# Altium schematic symbol library UK_Library_SCH.SchLib: 16 symbols
Pins are listed as number, name and electrical type; pins without a type are passive.

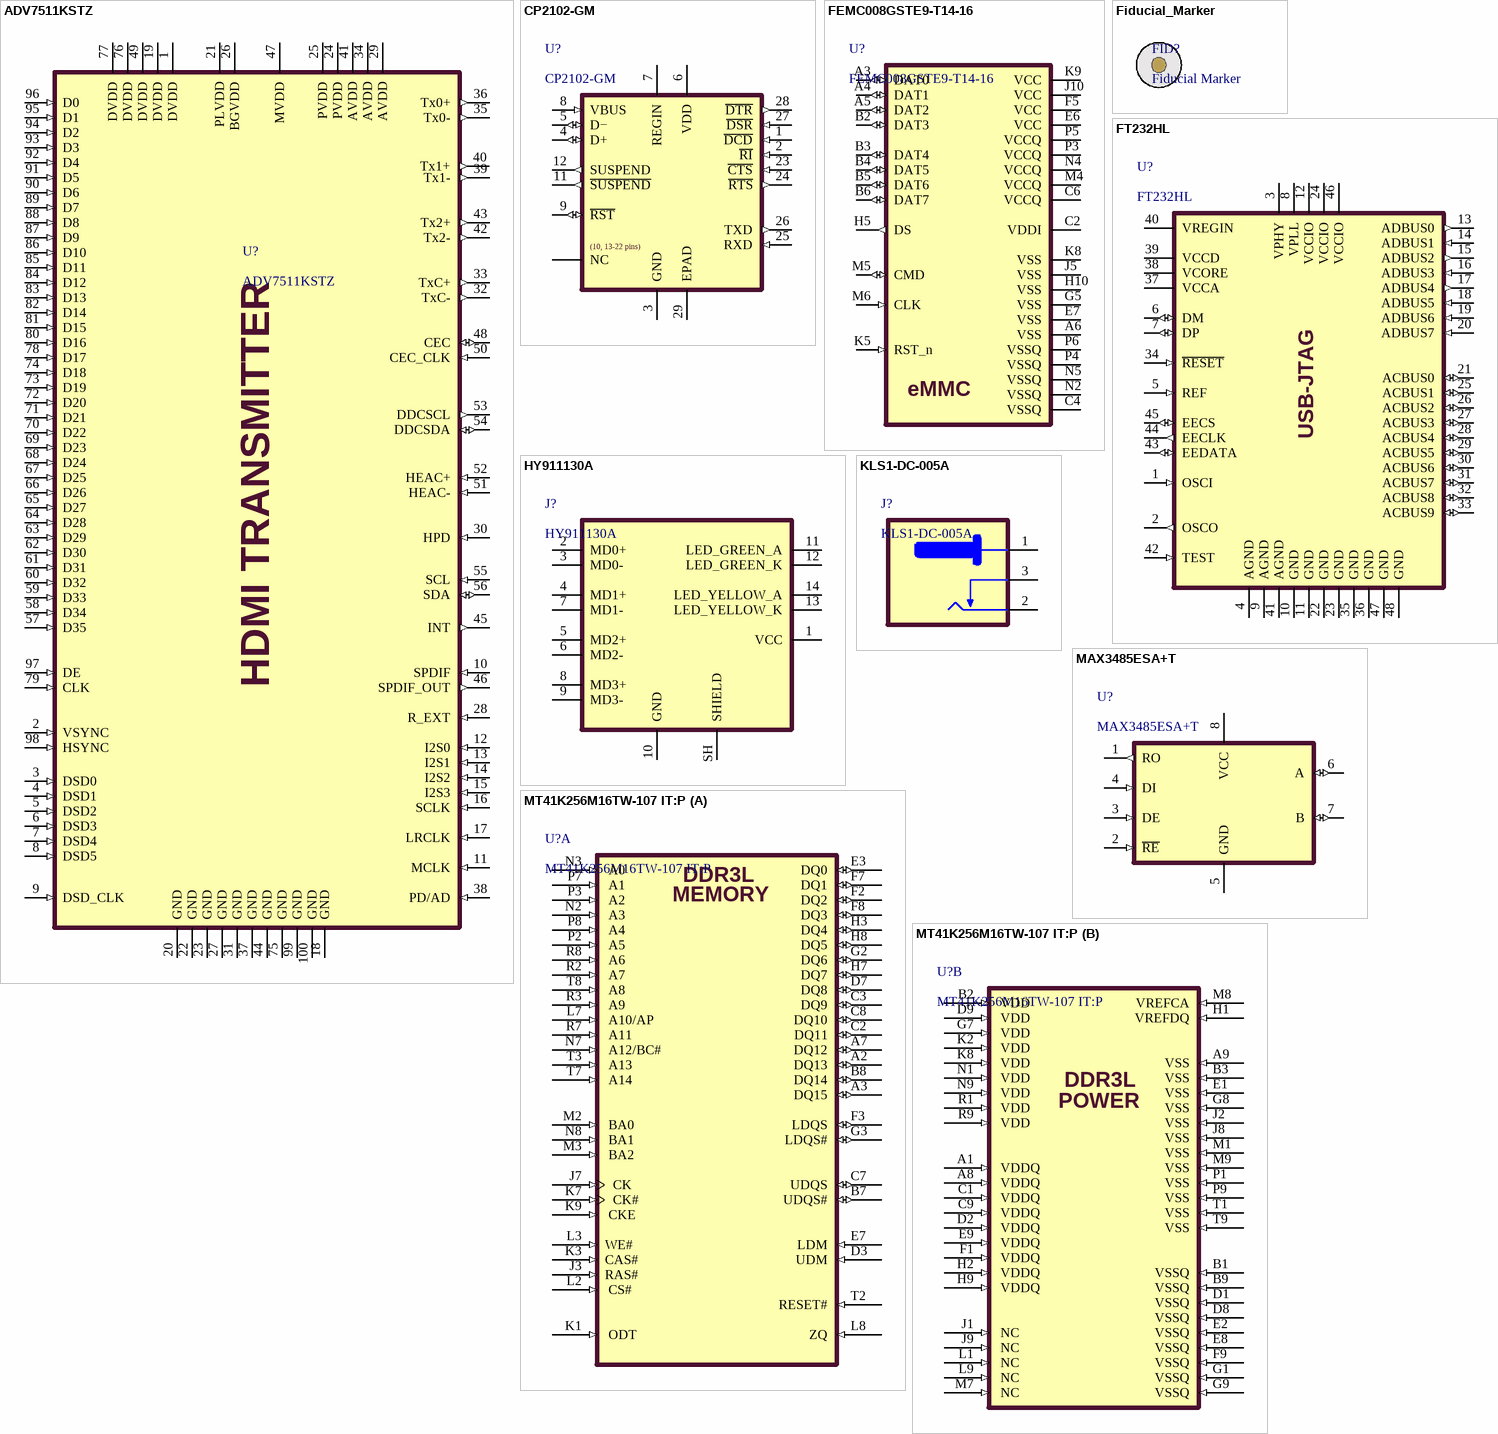
[diagram p0: symbols ADV7511KSTZ to MT41K256M16TW-107 IT:P]

## ADV7511KSTZ
designator U?
225 MHz, High Performance HDMI® Transmitter with ARC; Manufacturer: Analog Devices Inc./Maxim Integrated; ComponentLink1Description: Datasheet; ComponentLink1URL: https://www.analog.com/media/en/technical-documentation/data-sheets/ADV7511.pdf; ComponentLink2Description: Hardware User's Guide; ComponentLink2URL: https://www.analog.com/media/en/technical-documentation/user-guides/ADV7511_Hardware_Users_Guide.pdf; ComponentLink3Description: HDMI-Enabled Designs Using the ADV7511; ComponentLink3URL: https://www.analog.com/media/en/technical-documentation/evaluation-documentation/hdmi-enabled_designs_using_adv7511.pdf; ComponentLink4Description: Design Support Files; ComponentLink4URL: https://ez.analog.com/video/w/documents/794/adv7511-design-support-files; Manufacturer Part Number: ADV7511KSTZ
footprint LQFP50P1600X1600X160-100N (LQFP, 100-Leads, Body 14,00x14,00mm, Pitch 0,50mm, IPC Medium Density)
pins: 1 DVDD (power), 2 VSYNC (in), 3 DSD0 (in), 4 DSD1 (in), 5 DSD2 (in), 6 DSD3 (in), 7 DSD4 (in), 8 DSD5 (in), 9 DSD_CLK (in), 10 SPDIF (in), 11 MCLK (in), 12 I2S0 (in), 13 I2S1 (in), 14 I2S2 (in), 15 I2S3 (in), 16 SCLK (in), 17 LRCLK (in), 18 GND (power), 19 DVDD (power), 20 GND (power), 21 PLVDD (power), 22 GND (power), 23 GND (power), 24 PVDD (power), 25 PVDD (power), 26 BGVDD (power), 27 GND (power), 28 R_EXT (in), 29 AVDD (power), 30 HPD (in), 31 GND (power), 32 TxC- (out), 33 TxC+ (out), 34 AVDD (power), 35 Tx0- (out), 36 Tx0+ (out), 37 GND (power), 38 PD/AD (in), 39 Tx1- (out), 40 Tx1+ (out), 41 AVDD (power), 42 Tx2- (out), 43 Tx2+ (out), 44 GND (power), 45 INT (out), 46 SPDIF_OUT (out), 47 MVDD (power), 48 CEC (io), 49 DVDD (power), 50 CEC_CLK (in), 51 HEAC- (in), 52 HEAC+ (in), 53 DDCSCL (out), 54 DDCSDA (io), 55 SCL (in), 56 SDA (io), 57 D35 (in), 58 D34 (in), 59 D33 (in), 60 D32 (in), 61 D31 (in), 62 D30 (in), 63 D29 (in), 64 D28 (in), 65 D27 (in), 66 D26 (in), 67 D25 (in), 68 D24 (in), 69 D23 (in), 70 D22 (in), 71 D21 (in), 72 D20 (in), 73 D19 (in), 74 D18 (in), 75 GND (power), 76 DVDD (power), 77 DVDD (power), 78 D17 (in), 79 CLK (in), 80 D16 (in), 81 D15 (in), 82 D14 (in), 83 D13 (in), 84 D12 (in), 85 D11 (in), 86 D10 (in), 87 D9 (in), 88 D8 (in), 89 D7 (in), 90 D6 (in), 91 D5 (in), 92 D4 (in), 93 D3 (in), 94 D2 (in), 95 D1 (in), 96 D0 (in), 97 DE (in), 98 HSYNC (in), 99 GND (power), 100 GND (power)
text: HDMI TRANSMITTER

## CP2102-GM
designator U?
USB Bridge, USB to UART USB 2.0 UART Interface 28-QFN (5x5); Manufacturer: Silicon Labs; ComponentLink1Description: Datasheet; ComponentLink1URL: https://www.silabs.com/documents/public/data-sheets/CP2102-9.pdf; Manufacturer Part Number: CP2102-GM
footprint QFN50P500X500X100_HS-29N (QFN, 28-Leads, Body 5,00x5,00mm, Pitch 0,50mm, Thermal Pad 3,13x3,13mm, IPC Medium Density); pin to pad NC>10+13+14+15+16+17+18+19+20+21+22
pins: 1 ~{DCD} (in), 2 ~{RI} (in), 3 GND (power), 4 D+ (io), 5 D− (io), 6 VDD (power), 7 REGIN (power), 8 VBUS (in), 9 ~{RST} (io), 11 ~{SUSPEND} (out), 12 SUSPEND (out), 23 ~{CTS} (in), 24 ~{RTS} (out), 25 RXD (in), 26 TXD (out), 27 ~{DSR} (in), 28 ~{DTR} (out), 29 EPAD (power), NC
text: (10, 13-22 pins)

## FEMC008GSTE9-T14-16
designator U?
FLASH - NAND (MLC) Memory IC 64Gbit eMMC_5.1 200 MHz 153-FBGA (11.5x13); Manufacturer: Flexxon Pte Ltd; ComponentLink1Description: Datasheet; ComponentLink1URL: https://mm.digikey.com/Volume0/opasdata/d220001/medias/docus/6348/FLEXXON%20eMMC%205.1%20MLC%20%28XTRA%20III%20153ball%29%20SPEC%20V1.9.pdf; Manufacturer Part Number: FEMC008GSTE9-T14-16
footprint BGA153C50P14X14_1150X1300X100 (FBGA, 153-Leads, Body 11,50x13,00mmx1,00mm, Pitch 0,50mm)
pins: A3 DAT0 (io), A4 DAT1 (io), A5 DAT2 (io), A6 VSS (power), B2 DAT3 (io), B3 DAT4 (io), B4 DAT5 (io), B5 DAT6 (io), B6 DAT7 (io), C2 VDDI (power), C4 VSSQ (power), C6 VCCQ (power), E6 VCC (power), E7 VSS (power), F5 VCC (power), G5 VSS (power), H5 DS (out), H10 VSS (power), J5 VSS (power), J10 VCC (power), K5 RST_n (in), K8 VSS (power), K9 VCC (power), M4 VCCQ (power), M5 CMD (io), M6 CLK (in), N2 VSSQ (power), N4 VCCQ (power), N5 VSSQ (power), P3 VCCQ (power), P4 VSSQ (power), P5 VCCQ (power), P6 VSSQ (power)
text: eMMC

## Fiducial_Marker
designator FID?, comment Fiducial Marker
Fiducial Marker 1mm No Bom
footprint Fiducial

## FT232HL
designator U?
USB Bridge, USB to UART (JTAG),FIFO USB 2.0 UART, FIFO Interface 48-LQFP (7x7); Manufacturer: FTDI, Future Technology Devices International Ltd; Manufacturer Part Number: FT232HL-REEL; ComponentLink1Description: Datasheet; ComponentLink1URL: https://ftdichip.com/wp-content/uploads/2024/09/DS_FT232H.pdf#page=51&zoom=100,72,126
footprint LQFP50P900X900X160-48N (LQFP, 48-Leads, Body 7,00x7,00mm, Pitch 0,50mm, IPC Medium Density)
pins: 1 OSCI (in), 2 OSCO (out), 3 VPHY (power), 4 AGND (power), 5 REF (in), 6 DM (io), 7 DP (io), 8 VPLL (power), 9 AGND (power), 10 GND (power), 11 GND (power), 12 VCCIO (power), 13 ADBUS0 (out), 14 ADBUS1 (in), 15 ADBUS2 (out), 16 ADBUS3 (in), 17 ADBUS4 (out), 18 ADBUS5 (in), 19 ADBUS6 (in), 20 ADBUS7 (in), 21 ACBUS0 (io), 22 GND (power), 23 GND (power), 24 VCCIO (power), 25 ACBUS1 (io), 26 ACBUS2 (io), 27 ACBUS3 (io), 28 ACBUS4 (io), 29 ACBUS5 (io), 30 ACBUS6 (io), 31 ACBUS7 (io), 32 ACBUS8 (io), 33 ACBUS9 (io), 34 ~{RESET} (in), 35 GND (power), 36 GND (power), 37 VCCA (power), 38 VCORE (power), 39 VCCD (power), 40 VREGIN (power), 41 AGND (power), 42 TEST (in), 43 EEDATA (io), 44 EECLK (out), 45 EECS (io), 46 VCCIO (power), 47 GND (power), 48 GND (power)
text: USB-JTAG

## HY911130A
designator J?
Jack Modular Connector RJ45 Through Hole Shielded; Manufacturer: Hanrun; Manufacturer Part Number: HY911130A; ComponentLink1Description: Datasheet; ComponentLink1URL: https://www.lcsc.com/datasheet/C55679.pdf
footprint HY911130A
pins: 1 VCC, 2 MD0+, 3 MD0-, 4 MD1+, 5 MD2+, 6 MD2-, 7 MD1-, 8 MD3+, 9 MD3-, 10 GND, 11 LED_GREEN_A, 12 LED_GREEN_K, 13 LED_YELLOW_K, 14 LED_YELLOW_A, SH SHIELD

## KLS1-DC-005A
designator J?
CONNECTOR DC JACK POWER PCB TYPE 2.50MM KLS; Manufacturer: KLS ELECTRONIC; Manufacturer Part Number: L-KLS1-DC-005A-2.0; ComponentLink1Description: Datasheet; ComponentLink1URL: https://www.ozdisan.com/api/pdf/product/assets/KLS1-DC-005A.pdf
footprint CONN-KLS1-DC-005A
pins: 1 VCC, 2 GND, 3 SH

## MAX3485ESA+T
designator U?
1/1 Transceiver Half RS422, RS485 8-SOIC; Manufacturer: Analog Devices Inc./Maxim Integrated; ComponentLink1Description: Datasheet; ComponentLink1URL: https://www.analog.com/media/en/technical-documentation/data-sheets/max3483-max3491.pdf; Manufacturer Part Number: MAX3485ESA+T
footprint SOIC127P600X175-8N (SOIC, 8-Leads, Body 4,90x3,90mm, Pitch 1,27mm, IPC Medium Density)
pins: 1 RO (out), 2 ~{RE} (in), 3 DE (in), 4 DI (in), 5 GND (power), 6 A (io), 7 B (io), 8 VCC (power)

## MT41K256M16TW-107 IT:P
designator U?
SDRAM - DDR3L Memory IC 4Gbit Parallel 933 MHz 20 ns 96-FBGA (8x14); Manufacturer: Micron Technology Inc.; ComponentLink1Description: Datasheet; ComponentLink1URL: https://datasheet.octopart.com/MT41K256M16TW-107%3AP-Micron-datasheet-149527670.pdf; Manufacturer Part Number: MT41K256M16TW-107 IT:P
footprint BGA96C80P9X16_900X1400X110 (BGA, 96-Leads, Body 9,00x14,00mmx1,10mm, Pitch 0,80mm)
part A pins: A2  DQ13 (io), A3  DQ15 (io), A7  DQ12 (io), B7  UDQS# (io), B8  DQ14 (io), C2  DQ11 (io), C3  DQ9 (io), C7  UDQS (io), C8  DQ10 (io), D3  UDM (in), D7  DQ8 (io), E3  DQ0 (io), E7  LDM (in), F2  DQ2 (io), F3  LDQS (io), F7  DQ1 (io), F8  DQ3 (io), G2  DQ6 (io), G3  LDQS# (io), H3  DQ4 (io), H7  DQ7 (io), H8  DQ5 (io), J3 RAS# (in), J7  CK (in), K1  ODT (in), K3 CAS# (in), K7  CK# (in), K9  CKE (in), L2  CS# (in), L3 WE# (in), L7  A10/AP (in), L8 ZQ (in), M2  BA0 (in), M3  BA2 (in), N2  A3 (in), N3  A0 (in), N7  A12/BC# (in), N8  BA1 (in), P2  A5 (in), P3  A2 (in), P7  A1 (in), P8  A4 (in), R2  A7 (in), R3  A9 (in), R7  A11 (in), R8  A6 (in), T2  RESET# (in), T3  A13 (in), T7  A14 (in), T8  A8 (in)
part B pins: A1  VDDQ (in), A8  VDDQ (in), A9  VSS (in), B1  VSSQ (in), B2  VDD (in), B3  VSS (in), B9  VSSQ (in), C1  VDDQ (in), C9  VDDQ (in), D1  VSSQ (in), D2  VDDQ (in), D8  VSSQ (in), D9  VDD (in), E1  VSS (in), E2  VSSQ (in), E8  VSSQ (in), E9  VDDQ (in), F1  VDDQ (in), F9  VSSQ (in), G1  VSSQ (in), G7  VDD (in), G8  VSS (in), G9  VSSQ (in), H1  VREFDQ (in), H2  VDDQ (in), H9  VDDQ (in), J1  NC (in), J2  VSS (in), J8  VSS (in), J9  NC (in), K2  VDD (in), K8  VDD (in), L1  NC (in), L9  NC (in), M1  VSS (in), M7  NC (in), M8  VREFCA (in), M9  VSS (in), N1  VDD (in), N9  VDD (in), P1  VSS (in), P9  VSS (in), R1  VDD (in), R9  VDD (in), T1  VSS (in), T9  VSS (in)
part A text: DDR3L; MEMORY
part B text: DDR3L; POWER

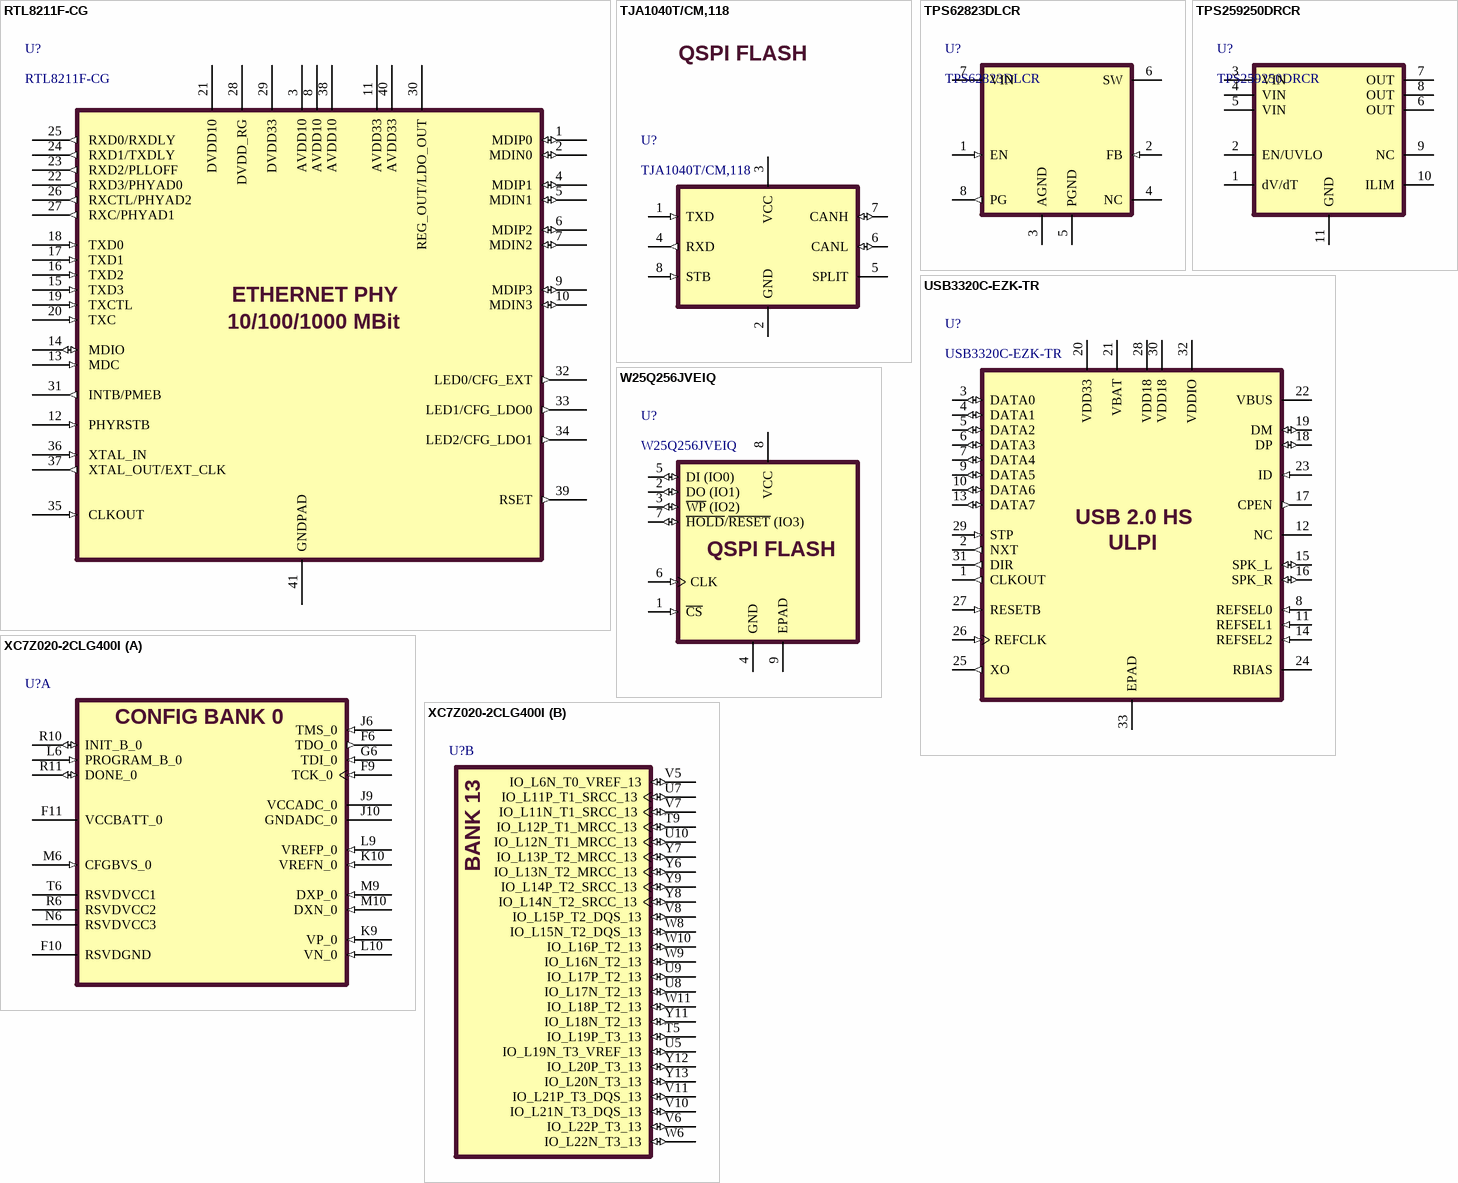
[diagram p1: symbols RTL8211F-CG to XC7Z020-2CLG400I]

## RTL8211F-CG
designator U?
RGMII Ethernet Transceiver WQFN-40-EP(5x5) Drivers, Receivers, Transceivers RoHS; Manufacturer: REALTEK; ComponentLink1Description: Datasheet; ComponentLink1URL: https://www.lcsc.com/datasheet/C187932.pdf; Manufacturer Part Number: RTL8211F-CG
footprint QFN40P500X500X90_HS-41N (QFN, 40-Leads, Body 5,00x5,00mm, Pitch 0,40mm, Thermal Pad 3,70x3,70mm, IPC Medium Density)
pins: 1  MDIP0 (io), 2  MDIN0 (io), 3  AVDD10 (power), 4  MDIP1 (io), 5  MDIN1 (io), 6  MDIP2 (io), 7  MDIN2 (io), 8  AVDD10 (power), 9  MDIP3 (io), 10  MDIN3 (io), 11  AVDD33 (power), 12  PHYRSTB (in), 13  MDC (in), 14  MDIO (io), 15  TXD3 (in), 16  TXD2 (in), 17  TXD1 (in), 18  TXD0 (in), 19  TXCTL (in), 20  TXC (in), 21  DVDD10 (power), 22  RXD3/PHYAD0 (out), 23  RXD2/PLLOFF (out), 24  RXD1/TXDLY (out), 25  RXD0/RXDLY (out), 26  RXCTL/PHYAD2 (out), 27  RXC/PHYAD1 (out), 28  DVDD_RG (power), 29  DVDD33 (power), 30  REG_OUT/LDO_OUT (power), 31  INTB/PMEB (out), 32  LED0/CFG_EXT (out), 33  LED1/CFG_LDO0 (out), 34  LED2/CFG_LDO1 (out), 35  CLKOUT (in), 36  XTAL_IN (in), 37  XTAL_OUT/EXT_CLK (out), 38  AVDD10 (power), 39  RSET (out), 40  AVDD33 (power), 41 GNDPAD (power)
text: ETHERNET PHY; 10/100/1000 MBit

## TJA1040T/CM,118
designator U?
CAN Interface IC High-Speed CAN Transceiver with Standby Mode SOIC8; Manufacturer: NXP USA Inc.; ComponentLink1Description: Datasheet; ComponentLink1URL: https://www.nxp.com/docs/en/data-sheet/TJA1040.pdf; Manufacturer Part Number: TJA1040T/CM,118
footprint SOIC127P600X175-8N (SOIC, 8-Leads, Body 4,90x3,90mm, Pitch 1,27mm, IPC Medium Density)
pins: 1 TXD (in), 2 GND (power), 3 VCC (power), 4 RXD (out), 5 SPLIT, 6 CANL (io), 7 CANH (io), 8 STB (in)
text: QSPI FLASH

## TPS62823DLCR
designator U?
2.4-V to 5.5-V input, 3-A step-down converter with 1% accuracy in 1.5-mm x 2-mm VSON-HR package; Manufacturer: Texas Instruments; ComponentLink1Description: Datasheet; ComponentLink1URL: https://www.ti.com/lit/ds/symlink/tps62823.pdf; ComponentLink2Description: Evaluation Module; ComponentLink2URL: https://www.ti.com/lit/ug/slvuba0/slvuba0.pdf; Manufacturer Part Number: TPS62823DLCR
footprint VSON50P150X100-8N (VSON, 8-Leads, Body 2,00x1,50mm, Pitch 0,50mm, IPC Medium Density)
pins: 1 EN (in), 2 FB (in), 3 AGND (power), 4 NC (power), 5 PGND (power), 6 SW (power), 7 VIN (power), 8 PG (out)

## TPS259250DRCR
designator U?
Electronic Fuse Regulator 5A 10-VSON (3x3); Manufacturer: Texas Instruments; ComponentLink1Description: Datasheet; ComponentLink1URL: https://www.ti.com/lit/ds/symlink/tps25925.pdf?HQS=dis-dk-null-digikeymode-dsf-pf-null-wwe&ts=1768606527240&ref_url=https%253A%252F%252Fwww.ti.com%252Fgeneral%252Fdocs%252Fsuppproductinfo.tsp%253FdistId%253D10%2526gotoUrl%253Dhttps%253A%252F%252Fwww.ti.com%252Flit%252Fgpn%252Ftps25925; ComponentLink2Description: Evaluation Module; ComponentLink2URL: https://www.ti.com/lit/ug/sluub64/sluub64.pdf?ts=1768615249837; Manufacturer Part Number: TPS259250DRCR
pins: 1 dV/dT, 2 EN/UVLO, 3 VIN (power), 4 VIN (power), 5 VIN (power), 6 OUT (power), 7 OUT (power), 8 OUT (power), 9 NC, 10 ILIM, 11 GND (power)

## USB3320C-EZK-TR
designator U?
Hi-Speed USB 2.0 ULPI Transceiver; Manufacturer: Microchip; Manufacturer Part Number: USB3320C-EZK-TR; ComponentLink1Description: Datasheet; ComponentLink1URL: https://ww1.microchip.com/downloads/aemDocuments/documents/UNG/ProductDocuments/DataSheets/USB3320-Data-Sheet-DS00001792.pdf
footprint QFN50P500X500X100_HS-33N (QFN, 32-Leads, Body 5,00x5,00mm, Pitch 0,50mm, Thermal Pad 3,30x3,30mm, IPC Medium Density)
pins: 1 CLKOUT (out), 2 NXT (out), 3 DATA0 (io), 4 DATA1 (io), 5 DATA2 (io), 6 DATA3 (io), 7 DATA4 (io), 8 REFSEL0 (in), 9 DATA5 (io), 10 DATA6 (io), 11 REFSEL1 (in), 12 NC, 13 DATA7 (io), 14 REFSEL2 (in), 15 SPK_L (io), 16 SPK_R (io), 17 CPEN (out), 18 DP (io), 19 DM (io), 20 VDD33 (power), 21 VBAT (power), 22 VBUS (power), 23 ID (in), 24 RBIAS, 25 XO (out), 26 REFCLK (in), 27 RESETB (in), 28 VDD18 (power), 29 STP (in), 30 VDD18 (power), 31 DIR (out), 32 VDDIO (power), 33 EPAD (power)
text: USB 2.0 HS; ULPI

## W25Q256JVEIQ
designator U?
FLASH - NOR Memory IC 256Mbit SPI - Quad I/O 133 MHz 8-WSON (8x6); Manufacturer: Winbond Electronics; ComponentLink1Description: Datasheet; ComponentLink1URL: https://www.winbond.com/resource-files/w25q256jv%20spi%20revg%2008032017.pdf; Manufacturer Part Number: W25Q256JVEIQ
footprint WSON8X6-SON127P800X80_HS-9N (SON, 8-Leads, Body 6,00x8,00mm, Pitch 1,27mm, Thermal Pad 4,30x3,40mm, IPC Medium Density)
pins: 1 ~{CS} (in), 2 DO (IO1) (io), 3 ~{WP} (IO2) (io), 4 GND (power), 5 DI (IO0) (io), 6 CLK (in), 7 ~{HOLD}/~{RESET} (IO3) (io), 8 VCC (power), 9 EPAD (power)
text: QSPI FLASH

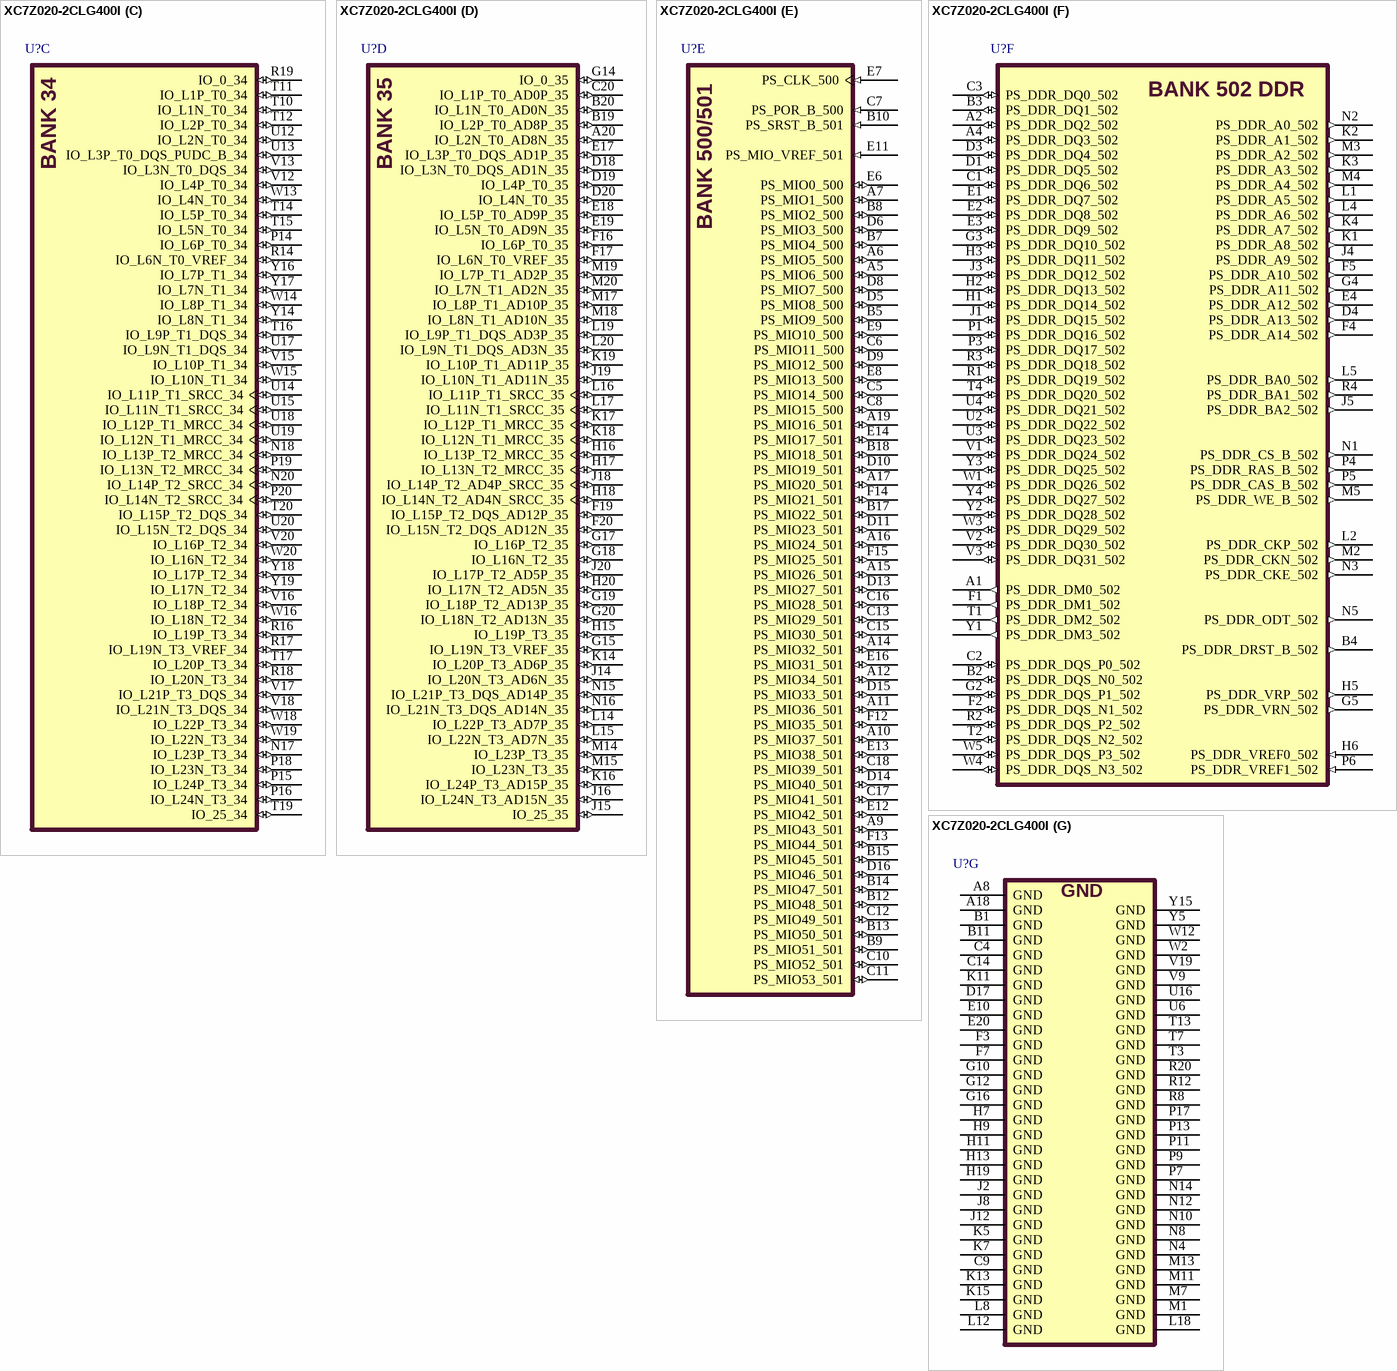
[diagram p2: symbol XC7Z020-2CLG400I]

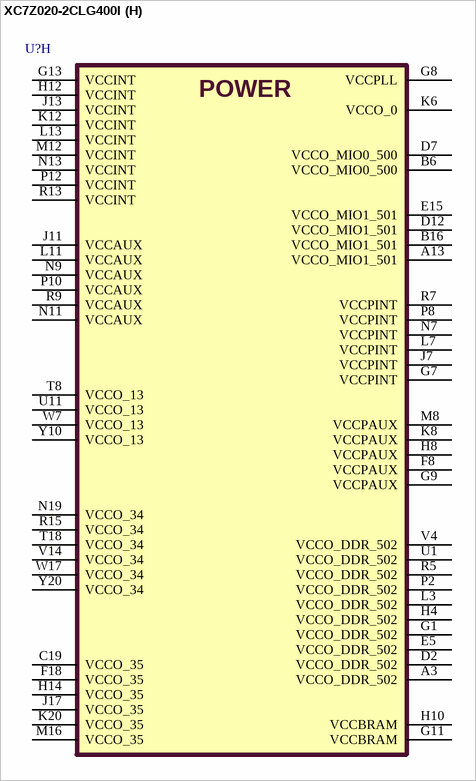
[diagram p3: symbol XC7Z020-2CLG400I]

## XC7Z020-2CLG400I
designator U?  (value not drawn)
Dual ARM® Cortex®-A9 MPCore™ with CoreSight™ System On Chip (SOC) IC Zynq®-7000 Artix™-7 FPGA, 85K Logic Cells 766MHz 400-CSPBGA (17x17); Manufacturer: AMD/XILINX; Manufacturer Part Number: XC7Z020-2CLG400I; ComponentLink1Description: Datasheet; ComponentLink1URL: https://docs.amd.com/v/u/en-US/ds190-Zynq-7000-Overview; ComponentLink2Description: DC and AC Switching Characteristics; ComponentLink2URL: https://docs.amd.com/v/u/en-US/ds187-XC7Z010-XC7Z020-Data-Sheet; ComponentLink3Description: PCB Design Guide; ComponentLink3URL: https://docs.amd.com/v/u/en-US/ug933-Zynq-7000-PCB; ComponentLink4Description: Packaging and Pinout; ComponentLink4URL: https://docs.amd.com/v/u/en-US/ug865-Zynq-7000-Pkg-Pinout; ComponentLink5Description: Zynq 7000 SoC Technical Reference Manual; ComponentLink5URL: https://docs.amd.com/r/en-US/ug585-zynq-7000-SoC-TRM
footprint BGA400C80P20X20_1700X1700X147 (BGA, 400-Leads, Body 17,00x17,00mmx1,47mm, Pitch 0,80mm)
part A pins: F6 TDO_0 (out), F9 TCK_0 (in), F10 RSVDGND (power), F11 VCCBATT_0 (power), G6 TDI_0 (in), J6 TMS_0 (in), J9 VCCADC_0 (power), J10 GNDADC_0 (power), K9 VP_0 (in), K10 VREFN_0 (in), L6 PROGRAM_B_0 (in), L9 VREFP_0 (in), L10 VN_0 (in), M6 CFGBVS_0 (in), M9 DXP_0 (in), M10 DXN_0 (in), N6 RSVDVCC3 (power), R6 RSVDVCC2 (power), R10 INIT_B_0 (io), R11 DONE_0 (io), T6 RSVDVCC1 (power)
part B pins: T5 IO_L19P_T3_13 (io), T9 IO_L12P_T1_MRCC_13 (io), U5 IO_L19N_T3_VREF_13 (io), U7 IO_L11P_T1_SRCC_13 (io), U8 IO_L17N_T2_13 (io), U9 IO_L17P_T2_13 (io), U10 IO_L12N_T1_MRCC_13 (io), V5 IO_L6N_T0_VREF_13 (io), V6 IO_L22P_T3_13 (io), V7 IO_L11N_T1_SRCC_13 (io), V8 IO_L15P_T2_DQS_13 (io), V10 IO_L21N_T3_DQS_13 (io), V11 IO_L21P_T3_DQS_13 (io), W6 IO_L22N_T3_13 (io), W8 IO_L15N_T2_DQS_13 (io), W9 IO_L16N_T2_13 (io), W10 IO_L16P_T2_13 (io), W11 IO_L18P_T2_13 (io), Y6 IO_L13N_T2_MRCC_13 (io), Y7 IO_L13P_T2_MRCC_13 (io), Y8 IO_L14N_T2_SRCC_13 (io), Y9 IO_L14P_T2_SRCC_13 (io), Y11 IO_L18N_T2_13 (io), Y12 IO_L20P_T3_13 (io), Y13 IO_L20N_T3_13 (io)
part C pins: N17 IO_L23P_T3_34 (io), N18 IO_L13P_T2_MRCC_34 (io), N20 IO_L14P_T2_SRCC_34 (io), P14 IO_L6P_T0_34 (io), P15 IO_L24P_T3_34 (io), P16 IO_L24N_T3_34 (io), P18 IO_L23N_T3_34 (io), P19 IO_L13N_T2_MRCC_34 (io), P20 IO_L14N_T2_SRCC_34 (io), R14 IO_L6N_T0_VREF_34 (io), R16 IO_L19P_T3_34 (io), R17 IO_L19N_T3_VREF_34 (io), R18 IO_L20N_T3_34 (io), R19 IO_0_34 (io), T10 IO_L1N_T0_34 (io), T11 IO_L1P_T0_34 (io), T12 IO_L2P_T0_34 (io), T14 IO_L5P_T0_34 (io), T15 IO_L5N_T0_34 (io), T16 IO_L9P_T1_DQS_34 (io), T17 IO_L20P_T3_34 (io), T19 IO_25_34 (io), T20 IO_L15P_T2_DQS_34 (io), U12 IO_L2N_T0_34 (io), U13 IO_L3P_T0_DQS_PUDC_B_34 (io), U14 IO_L11P_T1_SRCC_34 (io), U15 IO_L11N_T1_SRCC_34 (io), U17 IO_L9N_T1_DQS_34 (io), U18 IO_L12P_T1_MRCC_34 (io), U19 IO_L12N_T1_MRCC_34 (io), U20 IO_L15N_T2_DQS_34 (io), V12 IO_L4P_T0_34 (io), V13 IO_L3N_T0_DQS_34 (io), V15 IO_L10P_T1_34 (io), V16 IO_L18P_T2_34 (io), V17 IO_L21P_T3_DQS_34 (io), V18 IO_L21N_T3_DQS_34 (io), V20 IO_L16P_T2_34 (io), W13 IO_L4N_T0_34 (io), W14 IO_L8P_T1_34 (io), W15 IO_L10N_T1_34 (io), W16 IO_L18N_T2_34 (io), W18 IO_L22P_T3_34 (io), W19 IO_L22N_T3_34 (io), W20 IO_L16N_T2_34 (io), Y14 IO_L8N_T1_34 (io), Y16 IO_L7P_T1_34 (io), Y17 IO_L7N_T1_34 (io), Y18 IO_L17P_T2_34 (io), Y19 IO_L17N_T2_34 (io)
part D pins: A20 IO_L2N_T0_AD8N_35 (io), B19 IO_L2P_T0_AD8P_35 (io), B20 IO_L1N_T0_AD0N_35 (io), C20 IO_L1P_T0_AD0P_35 (io), D18 IO_L3N_T0_DQS_AD1N_35 (io), D19 IO_L4P_T0_35 (io), D20 IO_L4N_T0_35 (io), E17 IO_L3P_T0_DQS_AD1P_35 (io), E18 IO_L5P_T0_AD9P_35 (io), E19 IO_L5N_T0_AD9N_35 (io), F16 IO_L6P_T0_35 (io), F17 IO_L6N_T0_VREF_35 (io), F19 IO_L15P_T2_DQS_AD12P_35 (io), F20 IO_L15N_T2_DQS_AD12N_35 (io), G14 IO_0_35 (io), G15 IO_L19N_T3_VREF_35 (io), G17 IO_L16P_T2_35 (io), G18 IO_L16N_T2_35 (io), G19 IO_L18P_T2_AD13P_35 (io), G20 IO_L18N_T2_AD13N_35 (io), H15 IO_L19P_T3_35 (io), H16 IO_L13P_T2_MRCC_35 (io), H17 IO_L13N_T2_MRCC_35 (io), H18 IO_L14N_T2_AD4N_SRCC_35 (io), H20 IO_L17N_T2_AD5N_35 (io), J14 IO_L20N_T3_AD6N_35 (io), J15 IO_25_35 (io), J16 IO_L24N_T3_AD15N_35 (io), J18 IO_L14P_T2_AD4P_SRCC_35 (io), J19 IO_L10N_T1_AD11N_35 (io), J20 IO_L17P_T2_AD5P_35 (io), K14 IO_L20P_T3_AD6P_35 (io), K16 IO_L24P_T3_AD15P_35 (io), K17 IO_L12P_T1_MRCC_35 (io), K18 IO_L12N_T1_MRCC_35 (io), K19 IO_L10P_T1_AD11P_35 (io), L14 IO_L22P_T3_AD7P_35 (io), L15 IO_L22N_T3_AD7N_35 (io), L16 IO_L11P_T1_SRCC_35 (io), L17 IO_L11N_T1_SRCC_35 (io), L19 IO_L9P_T1_DQS_AD3P_35 (io), L20 IO_L9N_T1_DQS_AD3N_35 (io), M14 IO_L23P_T3_35 (io), M15 IO_L23N_T3_35 (io), M17 IO_L8P_T1_AD10P_35 (io), M18 IO_L8N_T1_AD10N_35 (io), M19 IO_L7P_T1_AD2P_35 (io), M20 IO_L7N_T1_AD2N_35 (io), N15 IO_L21P_T3_DQS_AD14P_35 (io), N16 IO_L21N_T3_DQS_AD14N_35 (io)
part E pins: A5 PS_MIO6_500 (io), A6 PS_MIO5_500 (io), A7 PS_MIO1_500 (io), A9 PS_MIO43_501 (io), A10 PS_MIO37_501 (io), A11 PS_MIO36_501 (io), A12 PS_MIO34_501 (io), A14 PS_MIO32_501 (io), A15 PS_MIO26_501 (io), A16 PS_MIO24_501 (io), A17 PS_MIO20_501 (io), A19 PS_MIO16_501 (io), B5 PS_MIO9_500 (io), B7 PS_MIO4_500 (io), B8 PS_MIO2_500 (io), B9 PS_MIO51_501 (io), B10 PS_SRST_B_501 (in), B12 PS_MIO48_501 (io), B13 PS_MIO50_501 (io), B14 PS_MIO47_501 (io), B15 PS_MIO45_501 (io), B17 PS_MIO22_501 (io), B18 PS_MIO18_501 (io), C5 PS_MIO14_500 (io), C6 PS_MIO11_500 (io), C7 PS_POR_B_500 (in), C8 PS_MIO15_500 (io), C10 PS_MIO52_501 (io), C11 PS_MIO53_501 (io), C12 PS_MIO49_501 (io), C13 PS_MIO29_501 (io), C15 PS_MIO30_501 (io), C16 PS_MIO28_501 (io), C17 PS_MIO41_501 (io), C18 PS_MIO39_501 (io), D5 PS_MIO8_500 (io), D6 PS_MIO3_500 (io), D8 PS_MIO7_500 (io), D9 PS_MIO12_500 (io), D10 PS_MIO19_501 (io), D11 PS_MIO23_501 (io), D13 PS_MIO27_501 (io), D14 PS_MIO40_501 (io), D15 PS_MIO33_501 (io), D16 PS_MIO46_501 (io), E6 PS_MIO0_500 (io), E7 PS_CLK_500 (in), E8 PS_MIO13_500 (io), E9 PS_MIO10_500 (io), E11 PS_MIO_VREF_501 (in), E12 PS_MIO42_501 (io), E13 PS_MIO38_501 (io), E14 PS_MIO17_501 (io), E16 PS_MIO31_501 (io), F12 PS_MIO35_501 (io), F13 PS_MIO44_501 (io), F14 PS_MIO21_501 (io), F15 PS_MIO25_501 (io)
part F pins: A1 PS_DDR_DM0_502 (out), A2 PS_DDR_DQ2_502 (io), A4 PS_DDR_DQ3_502 (io), B2 PS_DDR_DQS_N0_502 (io), B3 PS_DDR_DQ1_502 (io), B4 PS_DDR_DRST_B_502 (out), C1 PS_DDR_DQ6_502 (io), C2 PS_DDR_DQS_P0_502 (io), C3 PS_DDR_DQ0_502 (io), D1 PS_DDR_DQ5_502 (io), D3 PS_DDR_DQ4_502 (io), D4 PS_DDR_A13_502 (out), E1 PS_DDR_DQ7_502 (io), E2 PS_DDR_DQ8_502 (io), E3 PS_DDR_DQ9_502 (io), E4 PS_DDR_A12_502 (out), F1 PS_DDR_DM1_502 (out), F2 PS_DDR_DQS_N1_502 (io), F4 PS_DDR_A14_502 (out), F5 PS_DDR_A10_502 (out), G2 PS_DDR_DQS_P1_502 (io), G3 PS_DDR_DQ10_502 (io), G4 PS_DDR_A11_502 (out), G5 PS_DDR_VRN_502 (out), H1 PS_DDR_DQ14_502 (io), H2 PS_DDR_DQ13_502 (io), H3 PS_DDR_DQ11_502 (io), H5 PS_DDR_VRP_502 (out), H6 PS_DDR_VREF0_502 (in), J1 PS_DDR_DQ15_502 (io), J3 PS_DDR_DQ12_502 (io), J4 PS_DDR_A9_502 (out), J5 PS_DDR_BA2_502 (out), K1 PS_DDR_A8_502 (out), K2 PS_DDR_A1_502 (out), K3 PS_DDR_A3_502 (out), K4 PS_DDR_A7_502 (out), L1 PS_DDR_A5_502 (out), L2 PS_DDR_CKP_502 (out), L4 PS_DDR_A6_502 (out), L5 PS_DDR_BA0_502 (out), M2 PS_DDR_CKN_502 (out), M3 PS_DDR_A2_502 (out), M4 PS_DDR_A4_502 (out), M5 PS_DDR_WE_B_502 (out), N1 PS_DDR_CS_B_502 (out), N2 PS_DDR_A0_502 (out), N3 PS_DDR_CKE_502 (out), N5 PS_DDR_ODT_502 (out), P1 PS_DDR_DQ16_502 (io), P3 PS_DDR_DQ17_502 (io), P4 PS_DDR_RAS_B_502 (out), P5 PS_DDR_CAS_B_502 (out), P6 PS_DDR_VREF1_502 (in), R1 PS_DDR_DQ19_502 (io), R2 PS_DDR_DQS_P2_502 (io), R3 PS_DDR_DQ18_502 (io), R4 PS_DDR_BA1_502 (out), T1 PS_DDR_DM2_502 (out), T2 PS_DDR_DQS_N2_502 (io), T4 PS_DDR_DQ20_502 (io), U2 PS_DDR_DQ22_502 (io), U3 PS_DDR_DQ23_502 (io), U4 PS_DDR_DQ21_502 (io), V1 PS_DDR_DQ24_502 (io), V2 PS_DDR_DQ30_502 (io), V3 PS_DDR_DQ31_502 (io), W1 PS_DDR_DQ26_502 (io), W3 PS_DDR_DQ29_502 (io), W4 PS_DDR_DQS_N3_502 (io), W5 PS_DDR_DQS_P3_502 (io), Y1 PS_DDR_DM3_502 (out), Y2 PS_DDR_DQ28_502 (io), Y3 PS_DDR_DQ25_502 (io), Y4 PS_DDR_DQ27_502 (io)
part G pins: A8 GND (power), A18 GND (power), B1 GND (power), B11 GND (power), C4 GND (power), C9 GND (power), C14 GND (power), D17 GND (power), E10 GND (power), E20 GND (power), F3 GND (power), F7 GND (power), G10 GND (power), G12 GND (power), G16 GND (power), H7 GND (power), H9 GND (power), H11 GND (power), H13 GND (power), H19 GND (power), J2 GND (power), J8 GND (power), J12 GND (power), K5 GND (power), K7 GND (power), K11 GND (power), K13 GND (power), K15 GND (power), L8 GND (power), L12 GND (power), L18 GND (power), M1 GND (power), M7 GND (power), M11 GND (power), M13 GND (power), N4 GND (power), N8 GND (power), N10 GND (power), N12 GND (power), N14 GND (power), P7 GND (power), P9 GND (power), P11 GND (power), P13 GND (power), P17 GND (power), R8 GND (power), R12 GND (power), R20 GND (power), T3 GND (power), T7 GND (power), T13 GND (power), U6 GND (power), U16 GND (power), V9 GND (power), V19 GND (power), W2 GND (power), W12 GND (power), Y5 GND (power), Y15 GND (power)
part H pins: A3 VCCO_DDR_502 (power), A13 VCCO_MIO1_501 (power), B6 VCCO_MIO0_500 (power), B16 VCCO_MIO1_501 (power), C19 VCCO_35 (power), D2 VCCO_DDR_502 (power), D7 VCCO_MIO0_500 (power), D12 VCCO_MIO1_501 (power), E5 VCCO_DDR_502 (power), E15 VCCO_MIO1_501 (power), F8 VCCPAUX (power), F18 VCCO_35 (power), G1 VCCO_DDR_502 (power), G7 VCCPINT (power), G8 VCCPLL (power), G9 VCCPAUX (power), G11 VCCBRAM (power), G13 VCCINT (power), H4 VCCO_DDR_502 (power), H8 VCCPAUX (power), H10 VCCBRAM (power), H12 VCCINT (power), H14 VCCO_35 (power), J7 VCCPINT (power), J11 VCCAUX (power), J13 VCCINT (power), J17 VCCO_35 (power), K6 VCCO_0 (power), K8 VCCPAUX (power), K12 VCCINT (power), K20 VCCO_35 (power), L3 VCCO_DDR_502 (power), L7 VCCPINT (power), L11 VCCAUX (power), L13 VCCINT (power), M8 VCCPAUX (power), M12 VCCINT (power), M16 VCCO_35 (power), N7 VCCPINT (power), N9 VCCAUX (power), N11 VCCAUX (power), N13 VCCINT (power), N19 VCCO_34 (power), P2 VCCO_DDR_502 (power), P8 VCCPINT (power), P10 VCCAUX (power), P12 VCCINT (power), R5 VCCO_DDR_502 (power), R7 VCCPINT (power), R9 VCCAUX (power), R13 VCCINT (power), R15 VCCO_34 (power), T8 VCCO_13 (power), T18 VCCO_34 (power), U1 VCCO_DDR_502 (power), U11 VCCO_13 (power), V4 VCCO_DDR_502 (power), V14 VCCO_34 (power), W7 VCCO_13 (power), W17 VCCO_34 (power), Y10 VCCO_13 (power), Y20 VCCO_34 (power)
part A text: CONFIG BANK 0
part B text: BANK 13
part C text: BANK 34
part D text: BANK 35
part E text: BANK 500/501
part F text: BANK 502 DDR
part H text: POWER